# Altium schematic symbol library ADG1419BR.SchLib: 1 symbol
Pins are listed as number, name and electrical type; pins without a type are passive.

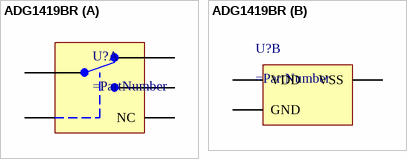
[diagram p0: symbol ADG1419BR]

## ADG1419BR
designator U?
part A pins: 1 D, 2 SA, 5 NC, 6 IN, 8 SB
part B pins: 3 GND, 4 VDD, 7 VSS